# Altium footprint library JST.PcbLib: 3 footprints
Each footprint in its own frame and in the unit in brackets; x right, y up, seen from the top. Pads: shape width x height; smd on the part's side, far side on the other; paste and mask are expansions set on the pad; w line width, h text height; cw(c..) or ccw(c..) is an arc to the next point about the centre after c.
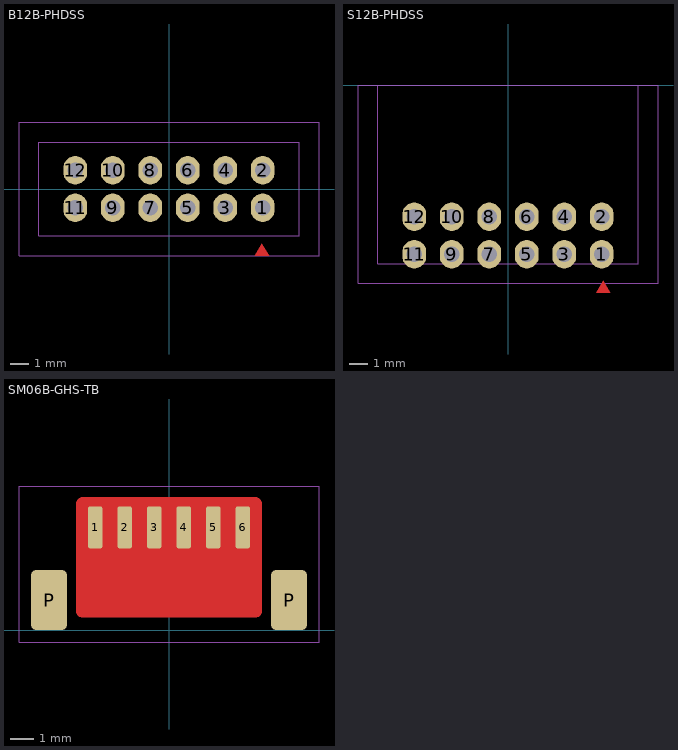
[diagram p0: the footprints below, top view; thin cyan lines are the x and y axes]

## B12B-PHDSS [mil] "JST PHD 12 Pin"
height 20
pads (12):
  oval 50x60 hole 32: 1(196.85,-39.37) 2(196.85,39.37) 3(118.11,-39.37) 4(118.11,39.37) 5(39.37,-39.37) 6(39.37,39.37) 7(-39.37,-39.37) 8(-39.37,39.37) 9(-118.11,-39.37) 10(-118.11,39.37) 11(-196.85,-39.37) 12(-196.85,39.37)
Top Layer:
  region: 195,-115 180,-140 210,-140
Top Designator:
  text ".Designator" at -127.64,-12.5 h35
Top Courtyard:
  lines w1: -315,-140 315,-140 315,140 -315,140 -315,-140
Top Component Outline:
  lines w1: -273.62,-98.43 273.62,-98.43 273.62,98.43 -273.62,98.43 -273.62,-98.43
3D body "B12B-PHDSS.STEP": height 255.91, standoff -118.11, extent -273.62,-98.43 273.62,98.43

## S12B-PHDSS [mil] "JST PHD 12 Pin"
height 20
pads (12):
  oval 50x60 hole 32: 1(196.85,-354.37) 2(196.85,-275.63) 3(118.11,-354.37) 4(118.11,-275.63) 5(39.37,-354.37) 6(39.37,-275.63) 7(-39.37,-354.37) 8(-39.37,-275.63) 9(-118.11,-354.37) 10(-118.11,-275.63) 11(-196.85,-354.37) 12(-196.85,-275.63)
Top Layer:
  region: 200,-410 185,-435 215,-435
Top Designator:
  text ".Designator" at -127.64,-162.5 h35
Top Courtyard:
  lines w1: -315,-415 315,-415 315,0 -315,0 -315,-415
Top Component Outline:
  lines w1: -273.62,-374.02 273.62,-374.02 273.62,0 -273.62,0 -273.62,-374.02
3D body "S12B-PHDSS.STEP": height 196.85, standoff -118.11, extent -273.62,-374.02 273.62,0

## SM06B-GHS-TB [mil]
pads (8):
  rrect30% 24x70 smd: 1(-123.03,170.94) 2(-73.82,170.94) 3(-24.61,170.94) 4(24.61,170.94) 5(73.82,170.94) 6(123.03,170.94)
  rrect30% 60x100 smd paste-10: P(-200,50) P(200,50)
Top Layer:
  pour cut-out: 154.21,210.94 154.21,212.93 152.69,216.61 149.88,219.42 146.2,220.94 144.21,220.94 -144.21,220.94 -146.2,220.94 -149.88,219.42 -152.69,216.61 -154.21,212.93 -154.21,210.94 -154.21,30.94 -154.21,28.95 -152.69,25.28 -149.88,22.47 -146.2,20.94 -144.21,20.94 144.21,20.94 146.2,20.94 149.88,22.47 152.69,25.28 154.21,28.95 154.21,30.94
Top Courtyard:
  lines w1: -250,-20 250,-20 250,240 -250,240 -250,-20
3D body "SM06B-GHS-TB.STEP": height 167.32, standoff 0, extent -211.61,0 211.61,190.94